# EAGLE library part LMV844MT (library LMV844MT)
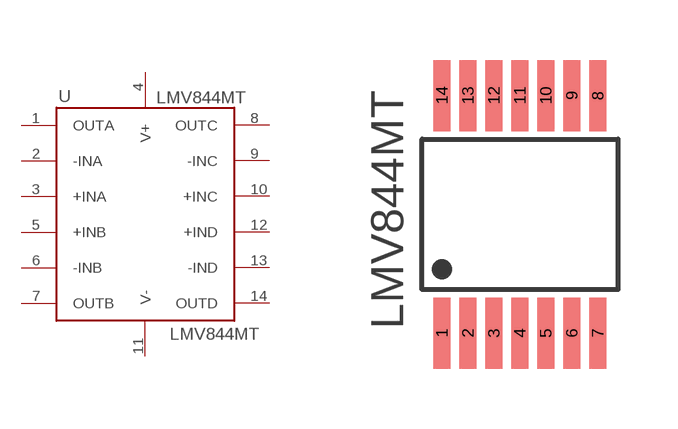
[diagram p0: symbol with the pads of MTC14; footprint MTC14]

Designator prefix -

## LMV844MT  [MTC14]
1  OUTA  out
2  -INA  in
3  +INA  in
4  V+  pwr
5  +INB  in
6  -INB  in
7  OUTB  out
8  OUTC  out
9  -INC  in
10  +INC  in
11  V-  pwr
12  +IND  in
13  -IND  in
14  OUTD  out

## Footprint MTC14 (pad centres in mm)
smd 0.42 x 1.78: 1 0,0; 2 0.65,0; 3 1.3,0; 4 1.95,0; 5 2.6,0; 6 3.25,0; 7 3.9,0; 8 3.9,5.94; 9 3.25,5.94; 10 2.6,5.94; 11 1.95,5.94; 12 1.3,5.94; 13 0.65,5.94; 14 0,5.94